# Altium footprint library AUVic_PCB_Library_DACs.PcbLib: 2 footprints
Each footprint in its own frame and in the unit in brackets; x right, y up, seen from the top. Pads: shape width x height; smd on the part's side, far side on the other; paste and mask are expansions set on the pad; w line width, h text height; cw(c..) or ccw(c..) is an arc to the next point about the centre after c.
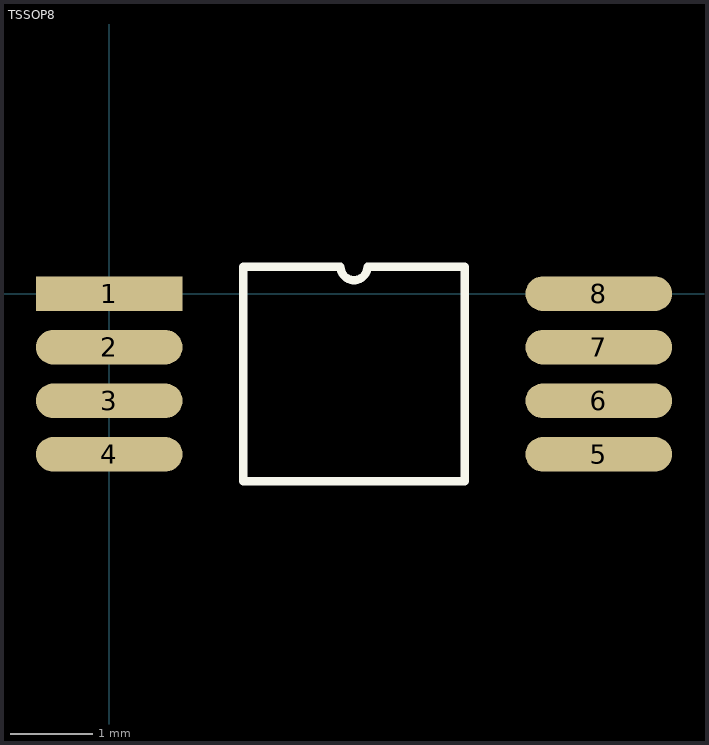
[diagram p0: the footprints below, top view; thin cyan lines are the x and y axes]

## PCBComponent_1 [mm]

## TSSOP8 [mm]
pads (8):
  rect 1.78x0.42 smd: 1(0,0)
  oval 1.78x0.42 smd: 2(0,-0.65) 3(0,-1.3) 4(0,-1.95) 5(5.94,-1.95) 6(5.94,-1.3) 7(5.94,-0.65) 8(5.94,0)
Top Overlay:
  lines w0.1: 1.625,-2.275 4.315,-2.275 4.315,0.325 3.132,0.325 cw(c2.97,0.325) 2.808,0.325 1.625,0.325 1.625,-2.275
3D body "User Library-TSSOP-8.STEP": height 1.2, standoff 0, extent -0.2,-2.5 6.2,0.5